# Altium schematic symbol library ATMEGA328P-AU.SchLib: 1 symbol
Pins are listed as number, name and electrical type; pins without a type are passive.

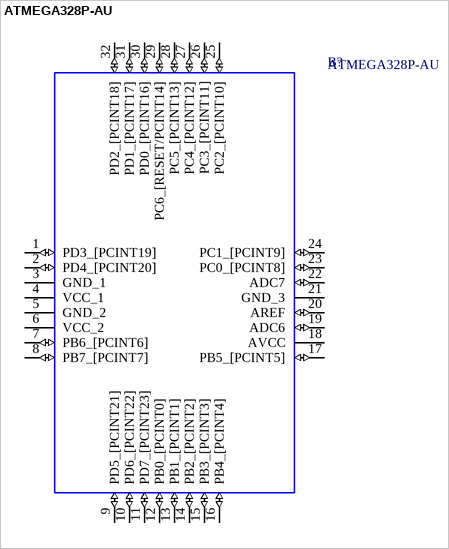
[diagram p0: symbol ATMEGA328P-AU]

## ATMEGA328P-AU
designator B?
MICROCHIP - ATMEGA328P-AU. - MICROCONTROLLER MCU, 8 BIT, ATMEGA, 20MHZ, TQFP-32; Geometry.Height: 1.2mm; Manufacturer_Name: Microchip; Manufacturer_Part_Number: ATMEGA328P-AU; RS Part Number: 1310271; RS Price/Stock: http://uk.rs-online.com/web/p/products/1310271; Arrow Part Number: ATMEGA328P-AU; Arrow Price/Stock: https://www.arrow.com/en/products/atmega328p-au/microchip-technology; Datasheet Link: https://componentsearchengine.com/Datasheets/2/ATMEGA328P-AU.pdf
footprint QFP80P900X900X120-32N
pins: 1 PD3_[PCINT19] (io), 2 PD4_[PCINT20] (io), 3 GND_1, 4 VCC_1 (power), 5 GND_2, 6 VCC_2 (power), 7 PB6_[PCINT6] (io), 8 PB7_[PCINT7] (io), 9 PD5_[PCINT21] (io), 10 PD6_[PCINT22] (io), 11 PD7_[PCINT23] (io), 12 PB0_[PCINT0] (io), 13 PB1_[PCINT1] (io), 14 PB2_[PCINT2] (io), 15 PB3_[PCINT3] (io), 16 PB4_[PCINT4] (io), 17 PB5_[PCINT5] (io), 18 AVCC (power), 19 ADC6 (io), 20 AREF (io), 21 GND_3, 22 ADC7 (io), 23 PC0_[PCINT8] (io), 24 PC1_[PCINT9] (io), 25 PC2_[PCINT10] (io), 26 PC3_[PCINT11] (io), 27 PC4_[PCINT12] (io), 28 PC5_[PCINT13] (io), 29 PC6_[RESET/PCINT14] (io), 30 PD0_[PCINT16] (io), 31 PD1_[PCINT17] (io), 32 PD2_[PCINT18] (io)